# EAGLE library part X__ISP_STECKER (library ++Bedrahtet)
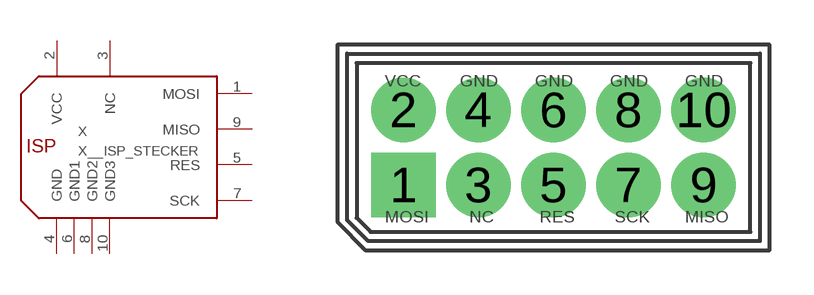
[diagram p7: symbol with the pads of ISPSTECKER; footprint ISPSTECKER]

Designator prefix X

## X__ISP_STECKER  [ISPSTECKER]
1  MOSI
2  VCC  pwr
3  NC  nc
4  GND  pwr
5  RES
6  GND1  pwr
7  SCK
8  GND2  pwr
9  MISO
10  GND3  pwr

## Footprint ISPSTECKER (pad centres in mm)
drill 1 pad 2.184 square: 1 0,0
drill 1 pad 2.184: 2 0,2.54; 3 2.54,0; 4 2.54,2.54; 5 5.08,0; 6 5.08,2.54; 7 7.62,0; 8 7.62,2.54; 9 10.16,0; 10 10.16,2.54